# EAGLE library part CON-LSTA_FE06-1 (library Mother-Board-rev5)
FEMALE HEADER
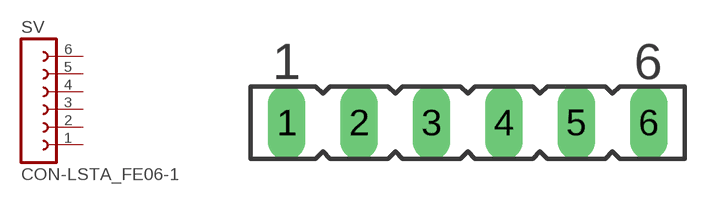
[diagram p6: symbol with the pads of CON-LSTA_FE06; footprint CON-LSTA_FE06]

Designator prefix SV

## CON-LSTA_FE06-1 (OC_FARNELL: unknown; OC_NEWARK: unknown)  [CON-LSTA_FE06]
1  1  pas
2  2  pas
3  3  pas
4  4  pas
5  5  pas
6  6  pas

## Footprint CON-LSTA_FE06 (pad centres in mm)
FEMALE HEADER
drill 0.813 long: 1 -6.35,0; 2 -3.81,0; 3 -1.27,0; 4 1.27,0; 5 3.81,0; 6 6.35,0